# Altium schematic symbol library 7461086.SchLib: 1 symbol
Pins are listed as number, name and electrical type; pins without a type are passive.

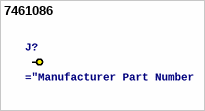
[diagram p0: symbol 7461086]

## 7461086
designator J?
POWER ELEMENT BUSH M4 12PIN
pins: 0